# Altium integrated library PassiveComponents_001.IntLib: 10 symbols
Pins are listed as number, name and electrical type; pins without a type are passive.

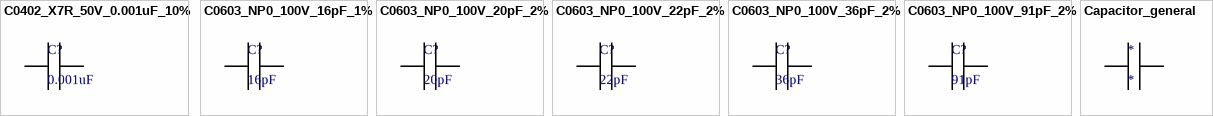
[diagram p0: symbols C0402_X7R_50V_0.001uF_10% to Capacitor_general]

## C0402_X7R_50V_0.001uF_10%
designator C?, comment 0.001uF
Murata 0402 Size; PartNumber: GRM155R71H102KA01J; Part: 0.001 uF, X7R, 50V, 10%tol.; ВП Описание: Конденсатор_GRM155R71H102KA01J; Наименование: Конденсатор; Описание: (CC0402-X7R-50 В-0.001 мкФ ±10%); Value: 0.001uF; Vender: Murata; Manufacturer: Murata; Manufacturer P/N: GRM155R71H102KA01J; ProductCode: *; StandartDoc: *; ComponentLink1Description: Manufacturer; ComponentLink1URL: https://www.murata.com/en-eu/; ComponentLink2Description: Datasheet; ComponentLink2URL: https://eu.mouser.com/datasheet/2/281/1/GCM1885C2A160FA16_01A-3142945.pdf; ComponentLink3Description: DatasheetLocal; ComponentLink3URL: d:\Work\Altium_Library\NewArcomLibrary\Datasheets\Murata\GCM1885C2A160FA16_01A-3142945.pdf
footprint C0402_L (Chip Capacitor, Body 1.0x0.5mm, Height 0.6mm, IPC High Density)
footprint C0402_L - Arcom (Chip Capacitor, Body 1.0x0.5mm, Height 0.6mm, IPC High Density)
footprint C0402_M (Chip Capacitor, Body 1.0x0.5mm, Height 0.6mm, IPC Low Density)
footprint C0402_Murata GJM15 / GRM15 (within +-0.10) (Murata footprint GJM15 / GRM15 series)
footprint C0402_N (Chip Capacitor, Body 1.0x0.5mm, Height 0.6mm, IPC Medium Density)
pins: 1, 2

## C0603_NP0_100V_16pF_1%
designator C?, comment 16pF
Murata 0603 Size; PartNumber: GCM1885C2A160FA16D; Part: 16 pF, NPO, 100V, 1%tol.; ВП Описание: Конденсатор_GCM1885C2A160FA16D; Наименование: Конденсатор; Описание: (CC0603-NP0-100 В-16 пФ ±1%); Value: 16pF; Vender: Murata; Manufacturer: Murata; Manufacturer P/N: GCM1885C2A160FA16D; ProductCode: *; StandartDoc: *; ComponentLink1Description: Manufacturer; ComponentLink1URL: https://www.murata.com/en-eu/; ComponentLink2Description: Datasheet; ComponentLink2URL: https://eu.mouser.com/datasheet/2/281/1/GCM1885C2A160FA16_01A-3142945.pdf; ComponentLink3Description: DatasheetLocal; ComponentLink3URL: d:\Work\Altium_Library\NewArcomLibrary\Datasheets\Murata\GCM1885C2A160FA16_01A-3142945.pdf
footprint C0603_L (Chip Capacitor, Body 1.6x0.8mm, Height 1.0mm, IPC High Density)
footprint C0603_L - Arcom (Chip Capacitor, Body 1.6x0.8mm, Height 1.0mm, IPC High Density)
footprint C0603_M (Chip Capacitor, Body 1.6x0.8mm, Height 1.0mm, IPC Low Density)
footprint C0603_N (Chip Capacitor, Body 1.6x0.8mm, Height 1.0mm, IPC Medium Density)
pins: 1, 2

## C0603_NP0_100V_20pF_2%
designator C?, comment 20pF
Murata 0603 Size; PartNumber: GRM1885C2A200GA01D; Part: 20 pF, NPO, 100V, 2%tol.; ВП Описание: Конденсатор_GRM1885C2A200GA01D; Наименование: Конденсатор; Описание: (CC0603-NP0-100 В-20 пФ ±2%); Value: 20pF; Vender: Murata; Manufacturer: Murata; Manufacturer P/N: GRM1885C2A200GA01D; ProductCode: *; StandartDoc: *; ComponentLink1Description: Manufacturer; ComponentLink1URL: https://www.murata.com/en-eu/; ComponentLink2Description: Datasheet; ComponentLink2URL: https://eu.mouser.com/datasheet/2/281/1/GRM1885C2A200GA01_01A-1985360.pdf; ComponentLink3Description: DatasheetLocal; ComponentLink3URL: d:\Work\Altium_Library\NewArcomLibrary\Datasheets\Murata\GRM1885C2A200GA01_01A-1985360.pdf
footprint C0603_L (Chip Capacitor, Body 1.6x0.8mm, Height 1.0mm, IPC High Density)
footprint C0603_L - Arcom (Chip Capacitor, Body 1.6x0.8mm, Height 1.0mm, IPC High Density)
footprint C0603_M (Chip Capacitor, Body 1.6x0.8mm, Height 1.0mm, IPC Low Density)
footprint C0603_N (Chip Capacitor, Body 1.6x0.8mm, Height 1.0mm, IPC Medium Density)
pins: 1, 2

## C0603_NP0_100V_22pF_2%
designator C?, comment 22pF
Kemet 0603 Size; PartNumber: C0603C220G1GACTU; Part: 22 pF, NPO, 100V, 2%tol.; ВП Описание: Конденсатор_C0603C220G1GACTU; Наименование: Конденсатор; Описание: (CC0603-NP0-100 В-22 пФ ±2%); Value: 22pF; Vender: Kemet; Manufacturer: Kemet; Manufacturer P/N: C0603C220G1GACTU; ProductCode: *; StandartDoc: *; ComponentLink1Description: Manufacturer; ComponentLink1URL: https://www.kemet.com/en/us.html; ComponentLink2Description: Datasheet; ComponentLink2URL: https://eu.mouser.com/datasheet/2/447/KEM_C1003_C0G_SMD-3316496.pdf; ComponentLink3Description: DatasheetLocal; ComponentLink3URL: d:\Work\Altium_Library\NewArcomLibrary\Datasheets\Kemet\KEM_C1003_C0G_SMD-3316496.pdf
footprint C0603_L (Chip Capacitor, Body 1.6x0.8mm, Height 1.0mm, IPC High Density)
footprint C0603_L - Arcom (Chip Capacitor, Body 1.6x0.8mm, Height 1.0mm, IPC High Density)
footprint C0603_M (Chip Capacitor, Body 1.6x0.8mm, Height 1.0mm, IPC Low Density)
footprint C0603_N (Chip Capacitor, Body 1.6x0.8mm, Height 1.0mm, IPC Medium Density)
pins: 1, 2

## C0603_NP0_100V_36pF_2%
designator C?, comment 36pF
Kyocera AVX 0603 Size; PartNumber: 06031A360GAT2A; Part: 36 pF, NPO, 100V, 2%tol.; ВП Описание: Конденсатор_06031A360GAT2A; Наименование: Конденсатор; Описание: (CC0603-NP0-100 В-36 пФ ±2%); Value: 36pF; Vender: KYOCERA AVX; Manufacturer: KYOCERA AVX; Manufacturer P/N: 06031A360GAT2A; ProductCode: *; StandartDoc: *; ComponentLink1Description: Manufacturer; ComponentLink1URL: https://www.kyocera-avx.com/; ComponentLink2Description: Datasheet; ComponentLink2URL: https://eu.mouser.com/datasheet/2/40/C0GNP0_Dielectric-2952720.pdf; ComponentLink3Description: DatasheetLocal; ComponentLink3URL: d:\Work\Altium_Library\NewArcomLibrary\Datasheets\KYOCERA\C0GNP0_Dielectric-2952720.pdf
footprint C0603_L (Chip Capacitor, Body 1.6x0.8mm, Height 1.0mm, IPC High Density)
footprint C0603_L - Arcom (Chip Capacitor, Body 1.6x0.8mm, Height 1.0mm, IPC High Density)
footprint C0603_M (Chip Capacitor, Body 1.6x0.8mm, Height 1.0mm, IPC Low Density)
footprint C0603_N (Chip Capacitor, Body 1.6x0.8mm, Height 1.0mm, IPC Medium Density)
pins: 1, 2

## C0603_NP0_100V_91pF_2%
designator C?, comment 91pF
Kyocera AVX 0603 Size; PartNumber: 06031A910GAT2A; Part: 91 pF, NPO, 100V, 2%tol.; ВП Описание: Конденсатор_06031A910GAT2A; Наименование: Конденсатор; Описание: (CC0603-NP0-100 В-91 пФ ±2%); Value: 91pF; Vender: KYOCERA AVX; Manufacturer: KYOCERA AVX; Manufacturer P/N: 06031A910GAT2A; ProductCode: *; StandartDoc: *; ComponentLink1Description: Manufacturer; ComponentLink1URL: https://www.kyocera-avx.com/; ComponentLink2Description: Datasheet; ComponentLink2URL: https://eu.mouser.com/datasheet/2/40/C0GNP0_Dielectric-2952720.pdf; ComponentLink3Description: DatasheetLocal; ComponentLink3URL: d:\Work\Altium_Library\NewArcomLibrary\Datasheets\KYOCERA\C0GNP0_Dielectric-2952720.pdf
footprint C0603_L (Chip Capacitor, Body 1.6x0.8mm, Height 1.0mm, IPC High Density)
footprint C0603_L - Arcom (Chip Capacitor, Body 1.6x0.8mm, Height 1.0mm, IPC High Density)
footprint C0603_M (Chip Capacitor, Body 1.6x0.8mm, Height 1.0mm, IPC Low Density)
footprint C0603_N (Chip Capacitor, Body 1.6x0.8mm, Height 1.0mm, IPC Medium Density)
pins: 1, 2

## Capacitor_general
designator *
Value: *; PartNumber: *; Vender: *; Manufacturer: *; Manufacturer P/N: *; ProductCode: *; StandartDoc: *; ВП Описание: *; Наименование: *; Описание: *; ComponentLink1Description: Manufacturer; ComponentLink1URL: *; ComponentLink2Description: Datasheet; ComponentLink2URL: *; ComponentLink3Description: DatasheetLocal; ComponentLink3URL: *; Part: *
pins: 1, 2


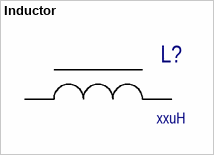
[diagram p1: symbol Inductor]

## Inductor
designator L?, comment xxuH
B82477G4: xx uH, xx0%, xx mA, xx MHz; Part Number: B82477G4xxx; Vender: Epcos; ВП Описание: Индуктивность_B82477G4xxx; Наименование: Индуктивность; Описание: ???; Value: xxuH; ComponentLink1Description: DataSheet; ComponentLink1URL: d:\Projects\Altium_Components_Lib\Component Data Base\R_C_L\B82477G4.pdf; StandartDoc: Epcos
pins: 1, 2


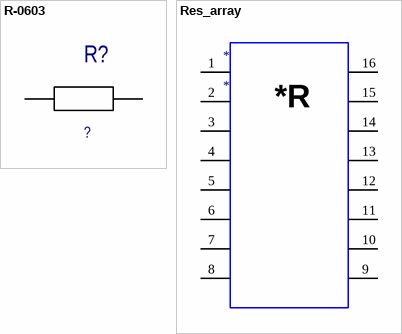
[diagram p2: symbols R-0603 to Res_array]

## R-0603
designator R?, comment ?
Resistor: 0603, ??? om, ??%; Part Number: Р1-12-0,1-ххх; Vender: АБШК.434110.023 ТУ; ВП Описание: Резистор_Р1-12-0,1-ххх; Наименование: Резистор; Описание: (Р1–12–0,1 – ?,? Ом  ?%); Value: ?; ComponentLink1Description: DataSheet; ComponentLink1URL: d:\Projects\Altium_Components_Lib\Component Data Base\R_C_L\YAGEO-RC0603.pdf; StandartDoc: АБШК.434110.023 ТУ
pins: 1, 2

## Res_array
designator *
pins: 1, 2, 3, 4, 5, 6, 7, 8, 9, 10, 11, 12, 13, 14, 15, 16
text: *R